# EAGLE library part LT1807* (library QuantumOptics)
Op Amp, dual, single supply, RRIO, fast (GBW 350MHz, 100V/uS). Great part, but Ib = 4uA max.
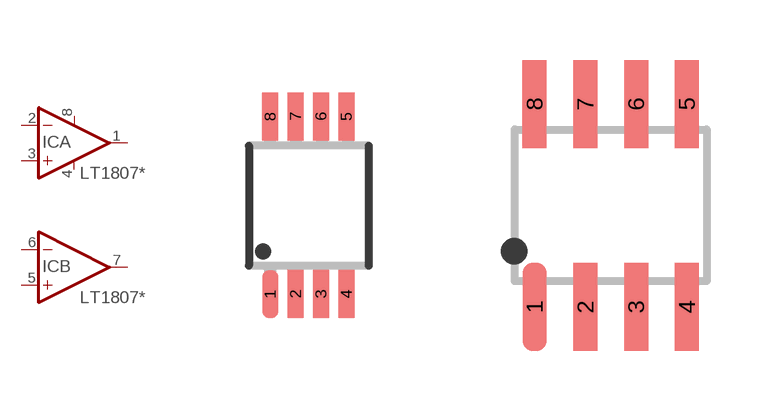
[diagram p0: symbol with the pads of MSOP8; footprints MSOP8, SOIC-8]

Designator prefix IC; gates A=OPAMP B=OPAMP G$1=PWR+-

## LT1807CMS8  [MSOP8]
1  A:OUT  out
2  A:-IN  in
3  A:+IN  in
4  G$1:V-
5  B:+IN  in
6  B:-IN  in
7  B:OUT  out
8  G$1:V+

## LT1807CS8  [SOIC-8]
Pads as for MSOP8

## Footprint MSOP8 (pad centres in mm)
MSOP-8, A.K.A. RM-8. Use 0.025" grid.
smd 0.4 x 1.2: 1 -0.635,-1.905; 2 0,-1.905; 3 0.635,-1.905; 4 1.27,-1.905; 5 1.27,2.54; 6 0.635,2.54; 7 0,2.54; 8 -0.635,2.54

## Footprint SOIC-8 (pad centres in mm)
SOIC-8 (a.k.a. SO-8), pads on 0.050" x 0.200" c-c spacing.
smd 0.6 x 2.2: 1 -1.27,-2.54; 2 0,-2.54; 3 1.27,-2.54; 4 2.54,-2.54; 5 2.54,2.54; 6 1.27,2.54; 7 0,2.54; 8 -1.27,2.54